# Altium schematic symbol library 1711725.SchLib: 1 symbol
Pins are listed as number, name and electrical type; pins without a type are passive.

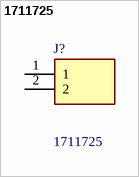
[diagram p0: symbol 1711725]

## 1711725
designator J?
PCB terminal block, nominal current: 24 A, rated voltage (III/2): 400 V, nominal cross section: 2.5 mm?, Number of potentials: 2, Number of rows: 1, Number of positions per row: 2, product range: MKDS 3, pitch: 5.08 mm, connection method: Screw connection with tension sleeve, mounting: Wave soldering, conductor/PCB connection direction: 0 ?, color: green, Pin layout: Linear pinning, Solder pin [P]: 5 mm, type of packaging: packed in cardboard. The article can be aligned to create different nos. of positions; Manufacturer_Name: Phoenix Contact; Geometry.Height: 18.2mm; TTI Part Number: *; TTI Price/Stock: *; Manufacturer_Part_Number: 1711725; Datasheet Link: http://www.phoenixcontact.net/product/1711725
footprint 1711725
pins: 1, 2